# EAGLE library part 74HCT139PW,118 (library SamacSys_Parts)
74HC(T)139 - Dual 2-to-4 line decoder/demultiplexer@en-us Source: Datasheet <https://assets.nexperia.com/documents/data-sheet/74HC_HCT139.pdf>
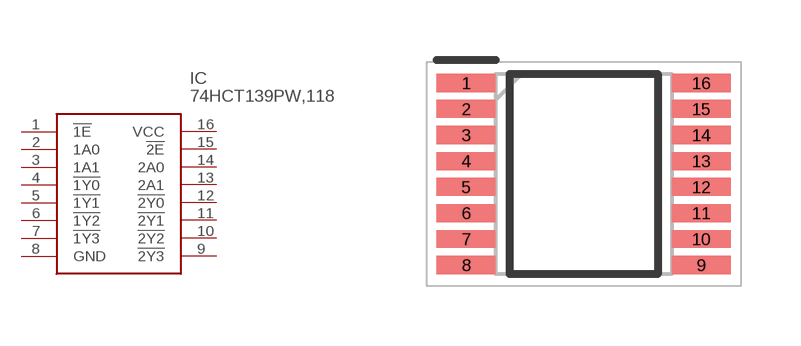
[diagram p98: symbol with the pads of SOP65P640X110-16N; footprint SOP65P640X110-16N]

Designator prefix IC

## 74HCT139PW,118 (DESCRIPTION: 74HC(T)139 - Dual 2-to-4 line decoder/demultiplexer@en-us; HEIGHT: 1.1mm; MANUFACTURER_NAME: Nexperia; MANUFACTURER_PART_NUMBER: 74HCT139PW,118; MOUSER_PART_NUMBER: 771-HCT139PW118; MOUSER_PRICE-STOCK: https://www.mouser.co.uk/ProductDetail/Nexperia/74HCT139PW118?qs=P62ublwmbi8Z%2FDqCwJaSAg%3D%3D)  [SOP65P640X110-16N]
1  !1E
2  1A0
3  1A1
4  !1Y0
5  !1Y1
6  !1Y2
7  !1Y3
8  GND
9  !2Y3
10  !2Y2
11  !2Y1
12  !2Y0
13  2A1
14  2A0
15  !2E
16  VCC

## Footprint SOP65P640X110-16N (pad centres in mm)
SOT403-1
smd 1.475 x 0.45: 1 -2.938,2.275; 2 -2.938,1.625; 3 -2.938,0.975; 4 -2.938,0.325; 5 -2.938,-0.325; 6 -2.938,-0.975; 7 -2.938,-1.625; 8 -2.938,-2.275; 9 2.938,-2.275; 10 2.938,-1.625; 11 2.938,-0.975; 12 2.938,-0.325; 13 2.938,0.325; 14 2.938,0.975; 15 2.938,1.625; 16 2.938,2.275